# Altium schematic symbol library Full Wave Rectifier.SchLib: 1 symbol
Pins are listed as number, name and electrical type; pins without a type are passive.

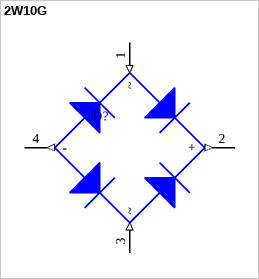
[diagram p0: symbol 2W10G]

## 2W10G
designator D?  (value not drawn)
footprint 2W10G
pins: 1 ~ (in), 2 + (out), 3 ~ (in), 4 - (out)